# EAGLE library part THAT300 (library meng)
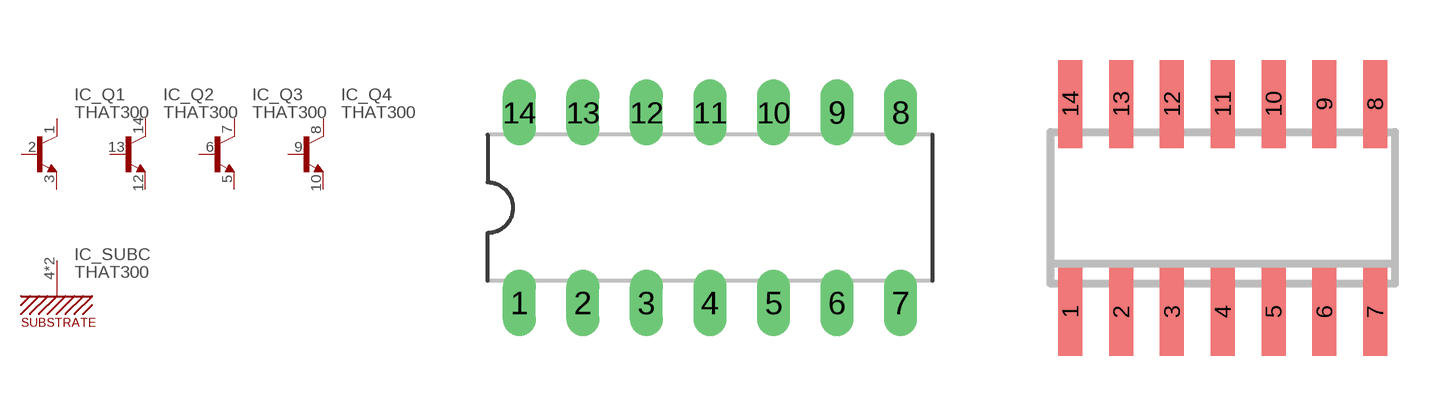
[diagram p26: symbol with the pads of DIL14; footprints DIL14, SO14]

Designator prefix IC; gates _Q1=NPN _Q2=NPN _Q3=NPN _Q4=NPN _SUBC=SUBC

## THAT300_DIP14  [DIL14]
1  _Q1:C  pas
2  _Q1:B  pas
3  _Q1:E  pas
4  _SUBC:SUBC
5  _Q3:E  pas
6  _Q3:B  pas
7  _Q3:C  pas
8  _Q4:C  pas
9  _Q4:B  pas
10  _Q4:E  pas
11  _SUBC:SUBC
12  _Q2:E  pas
13  _Q2:B  pas
14  _Q2:C  pas

## THAT300_SOIC14  [SO14]
Pads as for DIL14

## Footprint DIL14 (pad centres in mm)
Dual In Line Package
drill 0.813 long: 1 -7.62,-3.81; 2 -5.08,-3.81; 3 -2.54,-3.81; 4 0,-3.81; 5 2.54,-3.81; 6 5.08,-3.81; 7 7.62,-3.81; 8 7.62,3.81; 9 5.08,3.81; 10 2.54,3.81; 11 0,3.81; 12 -2.54,3.81; 13 -5.08,3.81; 14 -7.62,3.81

## Footprint SO14 (pad centres in mm)
SMALL OUTLINE INTEGRATED CIRCUIT body 3.9 mm/JEDEC MS-012AC
smd 0.6 x 2.2: 1 -3.81,-2.6; 2 -2.54,-2.6; 3 -1.27,-2.6; 4 0,-2.6; 5 1.27,-2.6; 6 2.54,-2.6; 7 3.81,-2.6; 8 3.81,2.6; 9 2.54,2.6; 10 1.27,2.6; 11 0,2.6; 12 -1.27,2.6; 13 -2.54,2.6; 14 -3.81,2.6